# Altium footprint library LEDs.PcbLib: 46 footprints (part 3 of 3)
Each footprint in its own frame and in the unit in brackets; x right, y up, seen from the top. Pads: shape width x height; smd on the part's side, far side on the other; paste and mask are expansions set on the pad; w line width, h text height; cw(c..) or ccw(c..) is an arc to the next point about the centre after c.
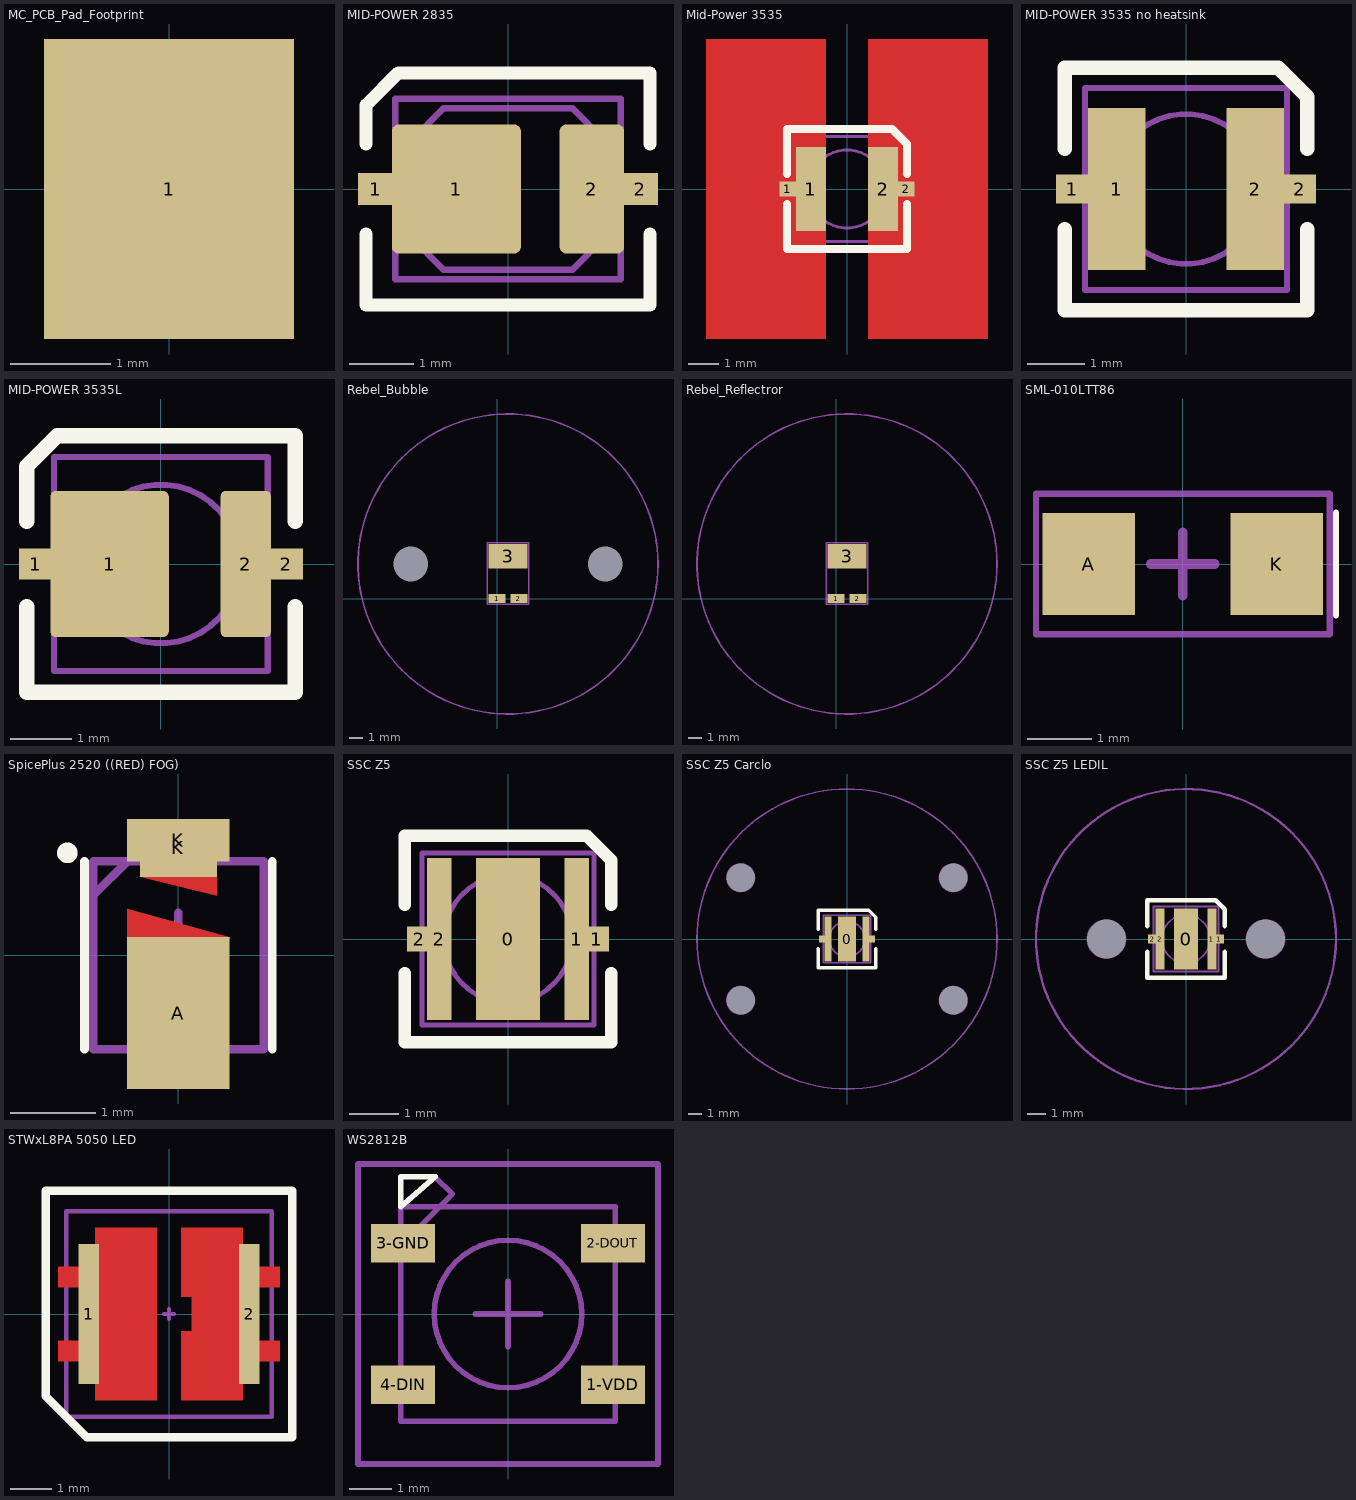
[diagram p2: the footprints below, top view; thin cyan lines are the x and y axes]

## MC_PCB_Pad_Footprint [mm]
pads (1):
  rect 2.5x3 smd: 1(0,0)

## MID-POWER 2835 [mm]
height 0.7
pads (4):
  rect 0.55x0.5 smd mask+0.05: 1(-2.05,0) 2(2.05,0)
  rrect10% 2x2 smd mask+0.05: 1(-0.8,0)
  rrect20% 1x2 smd mask+0.05: 2(1.3,0)
Top Overlay:
  lines w0.2: -2.2,-0.7 -2.2,-1.8 2.2,-1.8 2.2,-0.7 ; -2.2,0.7 -2.2,1.3 -1.7,1.8 2.2,1.8 2.2,0.7
Mechanical 13:
  lines w0.1: -1.75,-1.4 -1.75,1.4 1.75,1.4 1.75,-1.4 -1.75,-1.4 ; -1.5,-0.75 -1.5,0.75 -1,1.25 1,1.25 1.5,0.75 1.5,-0.75 1,-1.25 -1,-1.25 -1.5,-0.75
3D body "User Library-LED 2835.step": height 0.72, standoff 0, extent -1.756,-1.4 1.756,1.4

## Mid-Power 3535 [mm] "Luxeon Mid-Power 3535 LED"
height 1.3
pads (4):
  rect 0.55x0.5 smd: 1(-1.975,0) 2(1.975,0)
  rect 1x2.8 smd: 1(-1.2,0) 2(1.2,0)
Top Layer:
  rectangle: 0.7,-5 4.7,5
  rectangle: -4.7,-5 -0.7,5
Top Overlay:
  lines w0.254: -2,-0.5 -2,-2 2,-2 2,-0.5 ; -2,0.5 -2,2 1.5,2 2,1.5 2,0.5
Mechanical 13:
  circle w0.1: c0,0 r1.3
  lines w0.1: -1.75,-1.75 -1.75,1.75 1.75,1.75 1.75,-1.75 -1.75,-1.75
3D body "User Library-HP-XI3535.step": height 0.65, standoff 0, extent -1.75,-1.75 1.75,1.75

## MID-POWER 3535 no heatsink [mm]
height 1.3
pads (4):
  rect 0.55x0.5 smd: 1(-1.975,0) 2(1.975,0)
  rect 1x2.8 smd: 1(-1.2,0) 2(1.2,0)
Top Overlay:
  lines w0.254: -2.1,-0.7 -2.1,-2.1 2.1,-2.1 2.1,-0.7 ; -2.1,0.7 -2.1,2.1 1.6,2.1 2.1,1.6 2.1,0.7
Mechanical 13:
  circle w0.1: c0,0 r1.3
  lines w0.1: -1.75,-1.75 1.75,-1.75 1.75,1.75 -1.75,1.75 -1.75,-1.75
3D body "User Library-HP-XI3535.step": height 0.65, standoff 0, extent -1.75,-1.75 1.75,1.75

## MID-POWER 3535L [mm]
height 1.3
pads (4):
  rect 0.55x0.5 smd mask+0.1: 1(-2.05,0) 2(2.05,0)
  rrect10% 1.94x2.4 smd mask+0.1: 1(-0.84,0)
  rrect20% 0.82x2.4 smd mask+0.1: 2(1.39,0)
Top Overlay:
  lines w0.254: -2.2,-0.7 -2.2,-2.1 2.2,-2.1 2.2,-0.7 ; -2.2,0.7 -2.2,1.6 -1.7,2.1 2.2,2.1 2.2,0.7
Mechanical 13:
  circle w0.1: c0,0 r1.3
  lines w0.1: -1.75,-1.75 1.75,-1.75 1.75,1.75 -1.75,1.75 -1.75,-1.75
3D body "User Library-HP-XI3535.step": height 0.65, standoff 0, extent -1.75,-1.75 1.75,1.75

## Rebel_Bubble [mil]
pads (5):
  round 0 hole 98.43 unplated: 0(-244.59,98) 1(306.59,98)
  rect 48x26 smd paste-2: 1(0,0) 2(62,0)
  rect 110x70 smd paste-2 mask+0: 3(31,120)
Mechanical 1:
  lines w5: -28,-16 -28,158 90,158 90,-16 -28,-16
Mechanical 13:
  circle w5: c31,98 r425
3D body: height 472, standoff 0, extent -393.98,-326.98 455.98,522.98

## Rebel_Reflectror [mil]
height 197
pads (3):
  rect 48x26 smd paste-2: 1(0,0) 2(62,0)
  rect 110x70 smd paste-2 mask+0: 3(31,120)
Mechanical 1:
  lines w5: -28,-16 -28,158 90,158 90,-16 -28,-16
Mechanical 13:
  circle w5: c31,98 r425
3D body "otrajatel.stp": height 185.04, standoff 0, extent -855.81,-413.62 915.88,610

## SML-010LTT86 [mm]
pads (2):
  rect 1.45x1.6 smd mask+0.05: A(-1.475,0) K(1.475,0)
Top Overlay:
  lines w0.1: 2.4,-0.8 2.4,0.8
Mechanical 15:
  lines w0.1: -2.3,-1.1 2.3,-1.1 2.3,1.1 -2.3,1.1 -2.3,-1.1
  lines w0.15: -0.5,0 0.5,0 ; 0,-0.5 0,0.5
3D body "LED_SML-01_ROM.step": height 1.5, standoff 0, extent -1.499,-1.019 1.499,1.019

## SpicePlus 2520 ((RED) FOG) [mm]
pads (3):
  rect 1.2x1.78 smd: A(0,-0.676)
  rect 0.9x0.68 smd: K(0,1.258)
  rect 1.2x0.5 smd: K(0,1.348)
Top Layer:
  region: -0.45,0.929 -0.45,0.918 0.448,0.698 0.448,0.929
  region: -0.6,0.194 -0.6,0.544 0.6,0.214 0.6,0.194
Top Overlay:
  circle w0.2: c-1.3,1.2 r0.02
  lines w0.1: -1.1,-1.1 -1.1,1.1 ; 1.1,-1.1 1.1,1.1
Top Solder:
  region: -0.551,0.818 0.552,0.818 0.552,0.516
  region: 0.701,0.315 -0.699,0.315 -0.699,0.711
Mechanical 15:
  lines w0.1: -1,0.7 -0.6,1.1 ; -0.5,0 0.5,0 ; 0,-0.5 0,0.5 ; -1,-1.1 1,-1.1 1,1.1 -1,1.1 -1,-1.1
3D body "SVx-xHG_300921.stp": height 0.7, standoff 0, extent -1,-1.375 1,1.375

## SSC Z5 [mm]
height 2
pads (5):
  rect 1.3x3.3 smd paste-0.05 mask+0.1: 0(0,0)
  rect 0.5x3.3 smd paste-0.05 mask+0.1: 1(1.4,0) 2(-1.4,0)
  rect 0.5x0.5 smd paste-0.05 mask+0.1: 1(1.8,0) 2(-1.8,0)
Top Overlay:
  lines w0.254: -2.1,-0.7 -2.1,-2.1 2.1,-2.1 2.1,-0.7 ; -2.1,0.7 -2.1,2.1 1.6,2.1 2.1,1.6 2.1,0.7
Mechanical 13:
  circle w0.1: c0,0 r1.3
  lines w0.1: -1.75,-1.75 -1.75,1.75 1.75,1.75 1.75,-1.75 -1.75,-1.75
3D body: height 2.25, standoff -0.25, extent -1.237,-1.245 1.25,1.245
3D body: height 1.25, standoff 0, extent -1.749,-1.749 1.749,1.749

## SSC Z5 Carclo [mm]
height 12
pads (9):
  round 0 / inner round 2.1 / far side round 0 hole 2.1 unplated: 0(-7.8,-4.5) 0(-7.8,4.5) 0(7.8,-4.5) 0(7.8,4.5)
  rect 1.3x3.3 smd paste-0.05 mask+0.1: 0(0,0)
  rect 0.5x3.3 smd paste-0.05 mask+0.1: 1(1.4,0) 2(-1.4,0)
  rect 0.5x0.5 smd paste-0.05 mask+0.1: 1(1.8,0) 2(-1.8,0)
Top Overlay:
  lines w0.254: -2.1,-0.7 -2.1,-2.1 2.1,-2.1 2.1,-0.7 ; -2.1,0.7 -2.1,2.1 1.6,2.1 2.1,1.6 2.1,0.7
Keep-Out Layer:
  circle w0.1: c-7.8,-4.5 r1.03
  circle w0.1: c-7.8,4.5 r1.03
  circle w0.1: c7.8,4.5 r1.03
  circle w0.1: c7.8,-4.5 r1.03
Mechanical 13:
  circle w0.1: c0,0 r1.3
  circle w0.127: c0,0 r11
  lines w0.1: -1.75,-1.75 1.75,-1.75 1.75,1.75 -1.75,1.75 -1.75,-1.75
3D body: height 1.25, standoff 0, extent -1.749,-1.749 1.749,1.749
3D body: height 2.25, standoff -0.25, extent -1.237,-1.245 1.25,1.245

## SSC Z5 LEDIL [mm]
height 7
pads (7):
  round 0 / inner round 2.1 / far side round 0 hole 2.1 unplated: 0(-4.3,0) 0(4.3,0)
  rect 1.3x3.3 smd paste-0.05 mask+0.1: 0(0,0)
  rect 0.5x3.3 smd paste-0.05 mask+0.1: 1(1.4,0) 2(-1.4,0)
  rect 0.5x0.5 smd paste-0.05 mask+0.1: 1(1.8,0) 2(-1.8,0)
Top Overlay:
  lines w0.254: -2.1,-0.7 -2.1,-2.1 2.1,-2.1 2.1,-0.7 ; -2.1,0.7 -2.1,2.1 1.6,2.1 2.1,1.6 2.1,0.7
Keep-Out Layer:
  circle w0.1: c4.3,0 r1.03
  circle w0.1: c-4.3,0 r1.03
Mechanical 13:
  circle w0.127: c0,0 r8.1
  circle w0.1: c0,0 r1.3
  lines w0.1: -1.75,-1.75 -1.75,1.75 1.75,1.75 1.75,-1.75 -1.75,-1.75
3D body: height 2.25, standoff -0.25, extent -1.237,-1.245 1.25,1.245
3D body: height 1.25, standoff 0, extent -1.749,-1.749 1.749,1.749

## STWxL8PA 5050 LED [mm] "Seoul 5050 LED"
height 0.7
pads (2):
  rect 0.5x3.4 smd: 1(-1.95,0) 2(1.95,0)
Top Layer:
  region: -2.2,0.65 -2.7,0.65 -2.7,1.15 -2.2,1.15
  region: -2.2,-1.15 -2.7,-1.15 -2.7,-0.65 -2.2,-0.65
  region: 2.2,1.15 2.7,1.15 2.7,0.65 2.2,0.65
  region: 2.2,-0.65 2.7,-0.65 2.7,-1.15 2.2,-1.15
  region: -1.8,2.1 -0.3,2.1 -0.3,-2.1 -1.8,-2.1
  region: 0.3,2.1 1.8,2.1 1.8,-2.1 0.3,-2.1 0.3,-0.425 0.55,-0.425 0.55,0.425 0.3,0.425
Top Overlay:
  lines w0.2: -3,-2 -2,-3 3,-3 3,3 -3,3 -3,-2
Top Paste:
  region: -1.8,2.1 -0.3,2.1 -0.3,-2.1 -1.8,-2.1
  region: 0.3,2.1 1.8,2.1 1.8,-2.1 0.3,-2.1 0.3,-0.425 0.55,-0.425 0.55,0.425 0.3,0.425
Top Solder:
  region: -1.9,2.2 -0.2,2.2 -0.2,-2.2 -1.9,-2.2
  region: 0.2,2.2 1.9,2.2 1.9,-2.2 0.2,-2.2 0.2,-0.325 0.45,-0.325 0.45,0.325 0.2,0.325
  region: 2.8,1.25 2.8,0.55 2.1,0.55 2.1,1.25
  region: 2.8,-0.55 2.8,-1.25 2.1,-1.25 2.1,-0.55
  region: -2.8,-1.25 -2.8,-0.55 -2.1,-0.55 -2.1,-1.25
  region: -2.8,0.55 -2.8,1.25 -2.1,1.25 -2.1,0.55
Mechanical 15:
  lines w0.1: -0.125,0 0.125,0 ; 0,-0.125 0,0.125 ; -2.5,-2.5 -2.5,2.5 2.5,2.5 2.5,-2.5 -2.5,-2.5
3D body "User Library-SSC_SAW8LH0A_Acrich MJT_5050.step": height 0.75, standoff 0.05, extent -2.5,-2.5 2.5,2.5

## WS2812B [mm]
pads (4):
  rect 1.5x0.9 smd: 1-VDD(2.45,-1.65) 2-DOUT(2.45,1.65) 3-GND(-2.45,1.65) 4-DIN(-2.45,-1.65)
Top Overlay:
  lines w0.127: -2.5,2.5 -2.5,3.2 -1.7,3.2 -2.5,2.5
Mechanical 1:
  circle w0.127: c0,0 r1.72
  lines w0.127: -2.5,1.6 -2.5,-2.5 2.5,-2.5 2.5,2.5 -1.6,2.5 ; -2.5,1.6 -1.6,2.5 ; -2.5,1.6 -2.5,2.5 ; -2.5,2.5 -1.7,3.2 -1.3,2.8 -1.6,2.5 ; -2.5,2.5 -1.6,2.5
Mechanical 15:
  lines w0.15: -0.75,0 0.75,0 ; 0,-0.75 0,0.75 ; -3.5,-3.5 -3.5,3.5 3.5,3.5 3.5,-3.5 -3.5,-3.5
3D body: height 1.5, standoff 0, extent -2.5,-2.5 2.5,2.5